# Altium schematic symbol library 73300-0021.Schlib: 1 symbol
Pins are listed as number, name and electrical type; pins without a type are passive.

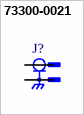
[diagram p0: symbol 73300-0021]

## 73300-0021
designator J?
RF Connectors / Coaxial Connectors SMPM Plug Edge Mount Full Detent
pins: 1, 2, 3